# Altium footprint library ECAP SMD.PcbLib: 1 footprints
Each footprint in its own frame and in the unit in brackets; x right, y up, seen from the top. Pads: shape width x height; smd on the part's side, far side on the other; paste and mask are expansions set on the pad; w line width, h text height; cw(c..) or ccw(c..) is an arc to the next point about the centre after c.
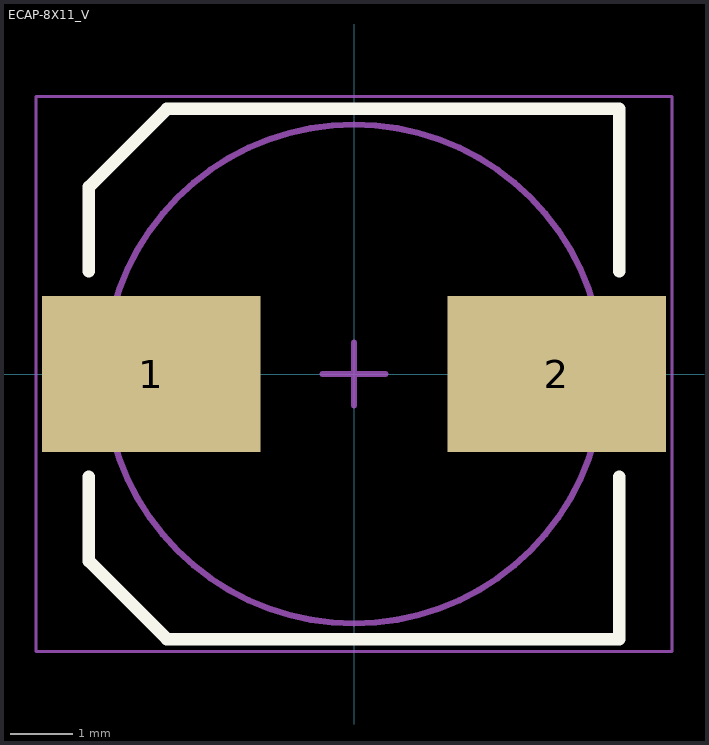
[diagram p0: the footprint, top view; thin cyan lines are the x and y axes]

## ECAP-8X11_V [mm] "Aluminum Electrolytic Capacitor, Diameter 8mm, Height 10.8mm, Pitch 6.5mm"
height 10.8
pads (2):
  rect 3.5x2.5 smd: 1(-3.25,0) 2(3.25,0)
Top Overlay:
  lines w0.2: -4.25,-1.65 -4.25,-3 -3,-4.25 4.25,-4.25 4.25,-1.65 ; -4.25,1.65 -4.25,3 -3,4.25 4.25,4.25 4.25,1.65
Mechanical 13:
  circle w0.1: c0,0 r4
Mechanical 15:
  lines w0.05: -5.1,-4.45 -5.1,4.45 5.1,4.45 5.1,-4.45 -5.1,-4.45
  lines w0.1: -0.5,0 0.5,0 ; 0,-0.5 0,0.5
3D body "ECAP_8mmx10mm.STEP": height 10.3, standoff -0.2, extent -4.85,-4.25 4.85,4.25